# EAGLE library part 74CB3Q3253PWJ (library SamacSys_Parts)
74CB3Q3253 - Dual 1-of-4 FET multiplexer/demultiplexer with charge pump@en-us Source: Datasheet <https://assets.nexperia.com/documents/data-sheet/74CB3Q3253.pdf>
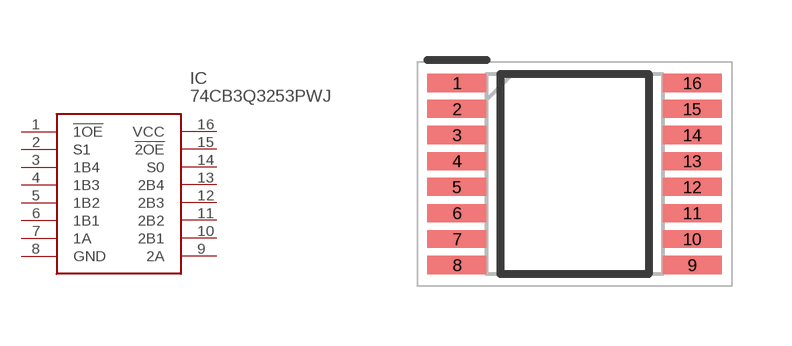
[diagram p238: symbol with the pads of SOP65P640X110-16N; footprint SOP65P640X110-16N]

Designator prefix IC

## 74CB3Q3253PWJ (ARROW_PART_NUMBER: 74CB3Q3253PWJ; ARROW_PRICE-STOCK: https://www.arrow.com/en/products/74cb3q3253pwj/nexperia; DESCRIPTION: 74CB3Q3253 - Dual 1-of-4 FET multiplexer/demultiplexer with charge pump@en-us; HEIGHT: 1.1mm; MANUFACTURER_NAME: Nexperia; MANUFACTURER_PART_NUMBER: 74CB3Q3253PWJ; MOUSER_PART_NUMBER: 771-74CB3Q3253PWJ; MOUSER_PRICE-STOCK: https://www.mouser.co.uk/ProductDetail/Nexperia/74CB3Q3253PWJ?qs=YCa%2FAAYMW0039vRtZ2fz%252BA%3D%3D)  [SOP65P640X110-16N]
1  !1OE
2  S1
3  1B4
4  1B3
5  1B2
6  1B1
7  1A
8  GND
9  2A
10  2B1
11  2B2
12  2B3
13  2B4
14  S0
15  !2OE
16  VCC

## Footprint SOP65P640X110-16N (pad centres in mm)
SOT403-1
smd 1.475 x 0.45: 1 -2.938,2.275; 2 -2.938,1.625; 3 -2.938,0.975; 4 -2.938,0.325; 5 -2.938,-0.325; 6 -2.938,-0.975; 7 -2.938,-1.625; 8 -2.938,-2.275; 9 2.938,-2.275; 10 2.938,-1.625; 11 2.938,-0.975; 12 2.938,-0.325; 13 2.938,0.325; 14 2.938,0.975; 15 2.938,1.625; 16 2.938,2.275